# EAGLE library part WS2812 (library LEDs)
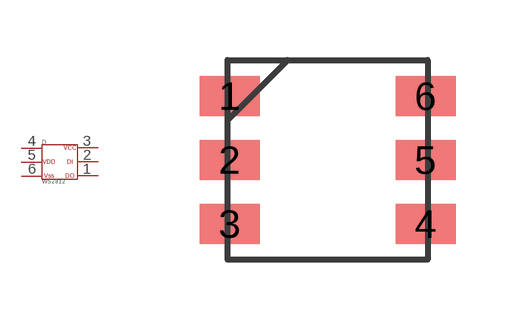
[diagram p1: symbol with the pads of WS2812; footprint WS2812]

Designator prefix D

## WS2812  [WS2812]
1  1  pas
2  2  pas
3  3  pas
4  4  pas
5  5  pas
6  6  pas

## Footprint WS2812 (pad centres in mm)
smd 1.5 x 1: 1 -2.45,1.6; 2 -2.45,0; 3 -2.45,-1.6; 4 2.45,-1.6; 5 2.45,0; 6 2.45,1.6